# EAGLE library part AD7476 (library afc-smm)
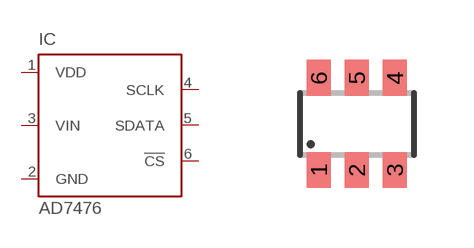
[diagram p1: symbol with the pads of SOT23-6; footprint SOT23-6]

Designator prefix IC

## AD7476  [SOT23-6]
1  VDD  pwr
2  GND  pwr
3  VIN  pas
4  SCLK  in
5  SDATA  in
6  !CS  in

## Footprint SOT23-6 (pad centres in mm)
Small Outline Transistor 6 lead
smd 0.6 x 0.9: 1 -0.95,-1.15; 2 0,-1.15; 3 0.95,-1.15; 4 0.95,1.15; 5 0,1.15; 6 -0.95,1.15